# Altium footprint library PcbLib1.PcbLib: 7 footprints
Each footprint in its own frame and in the unit in brackets; x right, y up, seen from the top. Pads: shape width x height; smd on the part's side, far side on the other; paste and mask are expansions set on the pad; w line width, h text height; cw(c..) or ccw(c..) is an arc to the next point about the centre after c.
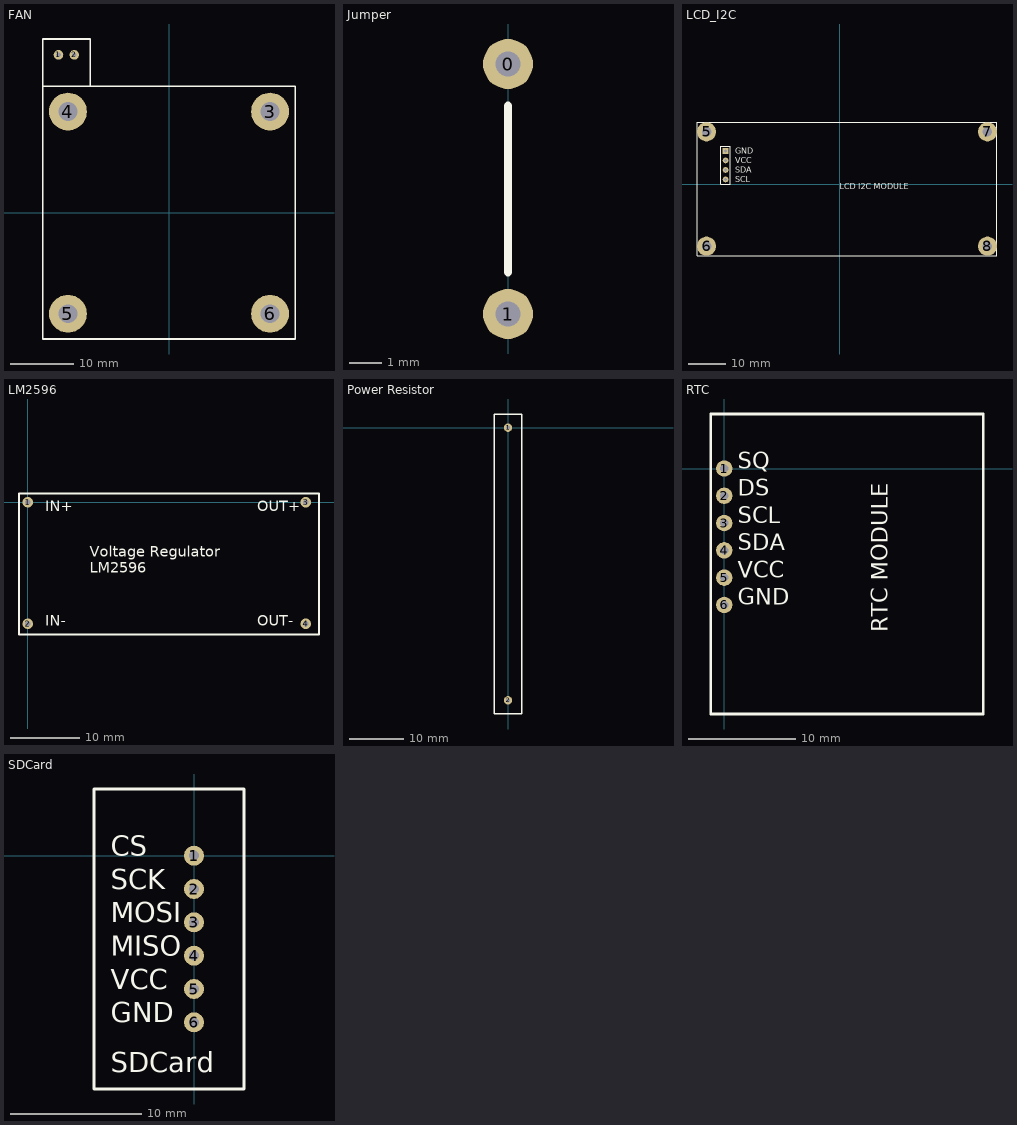
[diagram p0: the footprints below, top view; thin cyan lines are the x and y axes]

## FAN [mm]
pads (6):
  round 1.524 hole 0.762: 1(-17.5,25) 2(-15,25)
  round 6 hole 3: 3(16,16) 4(-16,16) 5(-16,-16) 6(16,-16)
Top Overlay:
  lines w0.254: -12.5,20 -12.5,27.5 -20,27.5 -20,20 ; -20,20 -20,-2.5 -20,-20 20,-20 20,20 -20,20

## Jumper [mil]
pads (2):
  round 60 hole 30: 0(0,350) 1(0,50)
Top Overlay:
  lines w10: 0,100 0,300

## LCD_I2C [mil]
pads (8):
  rect 60x60 hole 30: 1(-1200,350)
  round 60 hole 30: 2(-1200,250) 3(-1200,150) 4(-1200,50)
  round 200 hole 100: 5(-1400,550) 6(-1400,-650) 7(1550,550) 8(1550,-650)
Top Overlay:
  lines w10: -1500,-750 -1500,650 1650,650 1650,-750 -1500,-750 ; -1250,0 -1250,400 -1150,400 -1150,0 -1250,0
  text "LCD I2C MODULE" at 0,-50 h60
  text "SCL" at -1100,20 h60
  text "SDA" at -1100,120 h60
  text "VCC" at -1100,220 h60
  text "GND" at -1100,320 h60

## LM2596 [mil] "LM2596 module"
pads (4):
  round 60 hole 30: 1(0,0) 2(0,-688.98) 3(1574.8,0) 4(1574.8,-688.98)
Top Overlay:
  lines w10: -50,-750 -50,50 1650,50 1650,-750 -50,-750
  text "Voltage Regulator / LM2596" at 350,-400 h60
  text "IN+" at 100,-50 h60
  text "IN-" at 100,-700 h60
  text "OUT+" at 1300,-50 h60
  text "OUT-" at 1300,-700 h60

## Power Resistor [mil]
pads (2):
  round 60 hole 30: 1(0,0) 2(0,-1968.5)
Top Overlay:
  lines w10: -98.43,-2066.93 -98.43,98.43 98.43,98.43 98.43,-2066.93 -98.43,-2066.93

## RTC [mil]
pads (6):
  round 60 hole 30: 1(0,0) 2(0,-100) 3(0,-200) 4(0,-300) 5(0,-400) 6(0,-500)
Top Overlay:
  lines w10: -50,-900 -50,200 950,200 950,-900 -50,-900
  text "GND" at 50,-500 h60
  text "VCC" at 50,-400 h60
  text "SDA" at 50,-300 h60
  text "SCL" at 50,-200 h60
  text "DS" at 50,-100 h60
  text "SQ" at 50,0 h60
  text "RTC MODULE" at 600,-600 h60

## SDCard [mil] "SDCard Module"
pads (6):
  round 60 hole 30: 1(0,0) 2(0,-100) 3(0,-200) 4(0,-300) 5(0,-400) 6(0,-500)
Top Overlay:
  lines w10: -300,-700 150,-700 150,50 150,200 -300,200 -300,-700
  text "CS" at -250,0 h60
  text "SCK" at -250,-100 h60
  text "MOSI" at -250,-200 h60
  text "MISO" at -250,-300 h60
  text "VCC" at -250,-400 h60
  text "GND" at -250,-500 h60
  text "SDCard" at -250,-650 h60